# Altium schematic symbol library RESISTOR.Schlib: 1 symbol
Pins are listed as number, name and electrical type; pins without a type are passive.

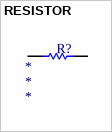
[diagram p0: symbol RESISTOR]

## RESISTOR
designator R?  (value not drawn)
Value: *; Power: *; Package: *
pins: 1, 2